# Altium footprint library SIM808.PcbLib: 7 footprints
Each footprint in its own frame and in the unit in brackets; x right, y up, seen from the top. Pads: shape width x height; smd on the part's side, far side on the other; paste and mask are expansions set on the pad; w line width, h text height; cw(c..) or ccw(c..) is an arc to the next point about the centre after c.
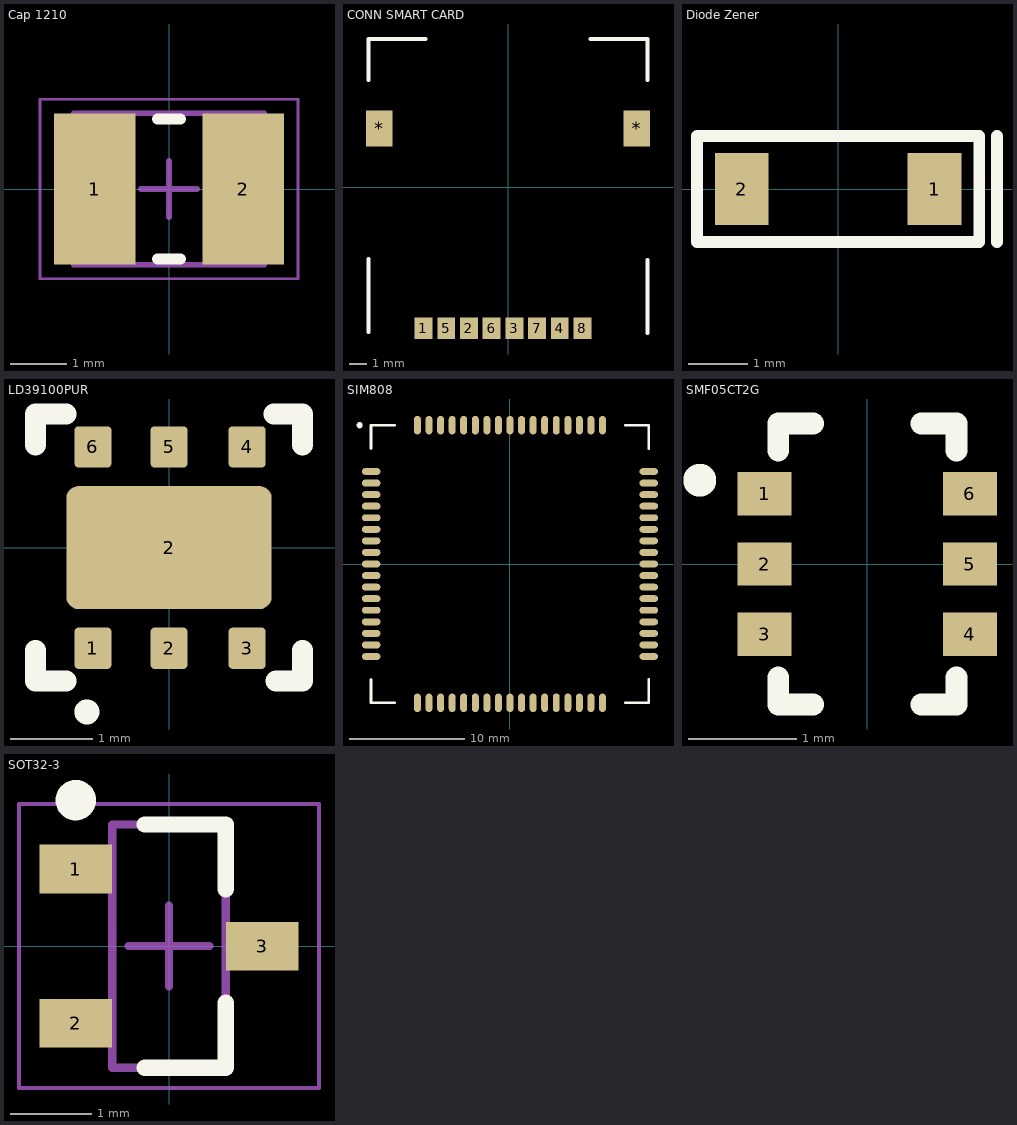
[diagram p0: the footprints below, top view; thin cyan lines are the x and y axes]

## Cap 1210 [mm] "1210 (3225m)"
height 2.5
pads (2):
  rect 1.45x2.7 smd: 1(-1.325,0) 2(1.325,0)
Top Overlay:
  lines w0.2: -0.2,-1.25 0.2,-1.25 ; -0.2,1.25 0.2,1.25
Mechanical 13:
  lines w0.1: -1.7,-1.35 -1.7,1.35 1.7,1.35 1.7,-1.35 -1.7,-1.35
Mechanical 15:
  lines w0.05: -2.3,-1.6 -2.3,1.6 2.3,1.6 2.3,-1.6 -2.3,-1.6
  lines w0.1: -0.5,0 0.5,0 ; 0,-0.5 0,0.5
3D body: height 2.5, standoff 0, extent -1.1,-1.35 1.1,1.35
3D body: height 2.5, standoff 0, extent -1.7,-1.35 -1.1,1.35
3D body: height 2.5, standoff 0, extent 1.1,-1.35 1.7,1.35

## CONN SMART CARD [mm] "Micro Sim connector"
pads (10):
  rect 1x1.2 smd: 1(-4.725,-7.875) 2(-2.185,-7.875) 3(0.355,-7.875) 4(2.895,-7.875) 5(-3.455,-7.875) 6(-0.915,-7.875) 7(1.625,-7.875) 8(4.165,-7.875)
  rect 1.5x2 smd: *(-7.2,3.3) *(7.2,3.3)
Top Overlay:
  lines w0.2: -7.8,-8.1 -7.8,-4 ; -7.8,6 -7.8,8.3 -4.6,8.3 ; 4.6,8.3 7.8,8.3 7.8,6 ; 7.8,-8.15 7.8,-4.05
3D body "STEP-693022010811-rev1.stp": height 1.9, standoff -0.05, extent -7.7,-8.15 7.7,8.15

## Diode Zener [mm]
pads (2):
  rect 0.91x1.22 smd: 1(1.637,0) 2(-1.637,0)
Top Overlay:
  lines w0.2: 2.7,-0.9 2.7,0.9 ; -2.4,-0.9 -2.4,0.9 2.4,0.9 2.4,-0.9 -2.4,-0.9

## LD39100PUR [mm]
pads (7):
  rrect20% 0.45x0.5 smd: 1(-0.925,-1.225) 2(0,-1.225) 3(0.95,-1.225) 4(0.95,1.225) 5(0,1.225) 6(-0.925,1.225)
  rrect20% 2.5x1.5 smd: 2(0,0)
Top Overlay:
  circle w0.254: c-1,-2 r0.025
  lines w0.254: -1.625,-1.25 -1.625,-1.625 -1.25,-1.625 ; -1.625,1.25 -1.625,1.625 -1.25,1.625 ; 1.275,1.625 1.625,1.625 1.625,1.25 ; 1.3,-1.625 1.625,-1.625 1.625,-1.25
3D body: height 1, standoff 0, extent -1.5,-1.5 1.5,1.5

## SIM808 [mm]
pads (68):
  oval 1.6x0.6 smd: 1(-12,8) 2(-12,7) 3(-12,6) 4(-12,5) 5(-12,4) 6(-12,3) 7(-12,2) 8(-12,1) 9(-12,0) 10(-12,-1) 11(-12,-2) 12(-12,-3) 13(-12,-4) 14(-12,-5) 15(-12,-6) 16(-12,-7) 17(-12,-8) 35(12,-8) 36(12,-7) 37(12,-6) 38(12,-5) 39(12,-4) 40(12,-3) 41(12,-2) 42(12,-1) 43(12,0) 44(12,1) 45(12,2) 46(12,3) 47(12,4) 48(12,5) 49(12,6) 50(12,7) 51(12,8)
  oval 0.6x1.6 smd: 18(-8,-12) 19(-7,-12) 20(-6,-12) 21(-5,-12) 22(-4,-12) 23(-3,-12) 24(-2,-12) 25(-1,-12) 26(0,-12) 27(1,-12) 28(2,-12) 29(3,-12) 30(4,-12) 31(5,-12) 32(6,-12) 33(7,-12) 34(8,-12) 52(8,12) 53(7,12) 54(6,12) 55(5,12) 56(4,12) 57(3,12) 58(2,12) 59(1,12) 60(0,12) 61(-1,12) 62(-2,12) 63(-3,12) 64(-4,12) 65(-5,12) 66(-6,12) 67(-7,12) 68(-8,12)
Top Overlay:
  circle w0.254: c-13,12 r0.141
  lines w0.254: -12,-10 -12,-12 -10,-12 ; -12,10 -12,12 -10,12 ; 10,-12 12,-12 12,-10 ; 10,12 12,12 12,10

## SMF05CT2G [mm] "SOT-363"
pads (6):
  rect 0.5x0.4 smd: 1(-0.95,0.65) 2(-0.95,0) 3(-0.95,-0.65) 4(0.95,-0.65) 5(0.95,0) 6(0.95,0.65)
Top Overlay:
  circle w0.254: c-1.55,0.775 r0.025
  lines w0.2: -0.825,-1.05 -0.825,-1.3 -0.5,-1.3 ; -0.825,1.05 -0.825,1.3 -0.5,1.3 ; 0.5,-1.3 0.825,-1.3 0.825,-1.05 ; 0.5,1.3 0.825,1.3 0.825,1.05
3D body: height 1.1, standoff 0.1, extent -0.725,-1.2 0.725,1.2

## SOT32-3 [mm] "SOT23, 3-Leads, Body 2.90x2.30mm, Pitch 0.95mm, IPC Medium Density"
height 1.1
pads (3):
  rect 0.9x0.6 smd: 1(-1.15,0.95) 2(-1.15,-0.95) 3(1.15,0)
Top Overlay:
  circle w0.25: c-1.15,1.8 r0.125
  lines w0.2: -0.3,-1.5 0.7,-1.5 0.7,-0.7 ; -0.3,1.5 0.7,1.5 0.7,0.7
Mechanical 13:
  lines w0.1: -0.7,-1.5 0.7,-1.5 0.7,1.5 -0.7,1.5 -0.7,-1.5
Mechanical 15:
  lines w0.05: -1.85,-1.75 1.85,-1.75 1.85,1.75 -1.85,1.75 -1.85,-1.75
  lines w0.1: -0.5,0 0.5,0 ; 0,-0.5 0,0.5
3D body: height 1.1, standoff 0.05, extent -0.7,-1.5 0.7,1.5